# EAGLE library part MAX5063 (library ic)
MAX5063: Half-bridge MOSFET driver (Maxim) 125V, 2A, 35ns delay TTL level
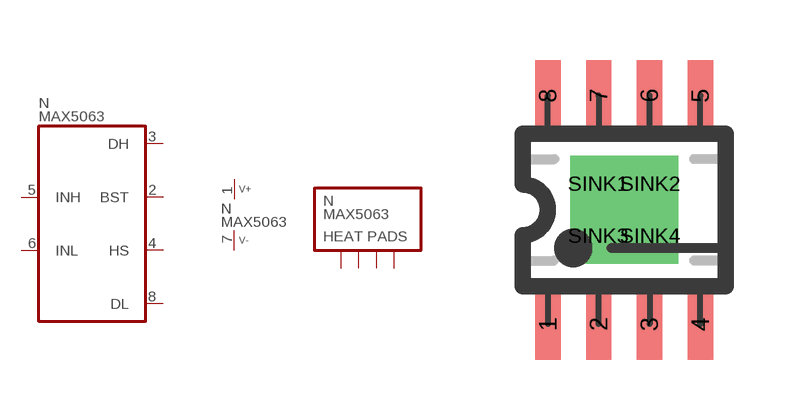
[diagram p97: symbol with the pads of SO08-EP; footprint SO08-EP]

Designator prefix N; gates  =MAX5062 P=V+- S=SINK04

## MAX5063  [SO08-EP]
1  P:V+  pwr
2   :BST
3   :DH  out
4   :HS  out
5   :INH  in
6   :INL  in
7  P:V-  pwr
8   :DL  out
SINK1  S:1
SINK2  S:2
SINK3  S:3
SINK4  S:4

## Footprint SO08-EP (pad centres in mm)
SO-8, SMD SOIC IC package, 8 pins, exposed paddle
smd 0.635 x 1.778: 1 -1.905,-2.857; 2 -0.635,-2.857; 3 0.635,-2.857; 4 1.905,-2.857; 5 1.905,2.857; 6 0.635,2.857; 7 -0.635,2.857; 8 -1.905,2.857
drill 0.813 pad 1.397 square: SINK1 -0.65,0.65; SINK2 0.65,0.65; SINK3 -0.65,-0.65; SINK4 0.65,-0.65